# EAGLE library part TRAN_DUAL_PUMD10 (library kxnStandard_transistor)
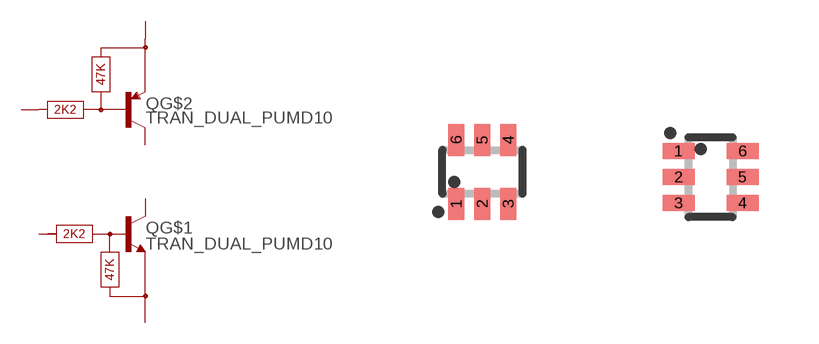
[diagram p2: symbol with the pads of SPARKFUN-DISCRETESEMI_SOT363_PHILIPS; footprints SPARKFUN-DISCRETESEMI_SOT363_PHILIPS, SOT363_NXP_KXN]

Designator prefix Q; gates G$1=TRAN_DUAL_PUMD10_NPN G$2=TRAN_DUAL_PUMD10_PNP

## TRAN_DUAL_PUMD10_SOT363  [SPARKFUN-DISCRETESEMI_SOT363_PHILIPS]
1  G$1:E  pas
2  G$1:B  pas
3  G$2:C  pas
4  G$2:E  pas
5  G$2:B  pas
6  G$1:C  pas

## TRAN_DUAL_PUMD10_SOT363_NXP_KXN  [SOT363_NXP_KXN]
Pads as for SPARKFUN-DISCRETESEMI_SOT363_PHILIPS

## Footprint SPARKFUN-DISCRETESEMI_SOT363_PHILIPS (pad centres in mm)
Small Outline Transistor; 6 leads Philips Semiconductors, SOT363.pdf
smd 0.4 x 0.8: 1 -0.65,-0.8; 2 0,-0.8; 3 0.65,-0.8; 4 0.65,0.8; 5 0,0.8; 6 -0.65,0.8

## Footprint SOT363_NXP_KXN (pad centres in mm)
Marking BC857BS - (.3Ft) BCM857BS - (.A9t): Dual PNP; 45V 100mA; 0.78te BCM856BS - (.tBS): Dual PNP; 65V 100mA; 0.65te PUMD10 - (.Dt0): Dual NPN-PNP; R1=2K2; R2=47K; 50V 100mA PMBT2222AYSX - (.BFt): Dual NPN 40V 600mA; 0.58te https://item.taobao.com/item.htm?spm=a312a.7700824.w4002-24706531953.57.1d236a4bUOGiLR&id=697012906510
smd 0.8 x 0.4: 1 -0.8,0.65; 2 -0.8,0; 3 -0.8,-0.65; 4 0.8,-0.65; 5 0.8,0; 6 0.8,0.65